# EAGLE library part LAN_CONTROLLER (library GoatFinder)
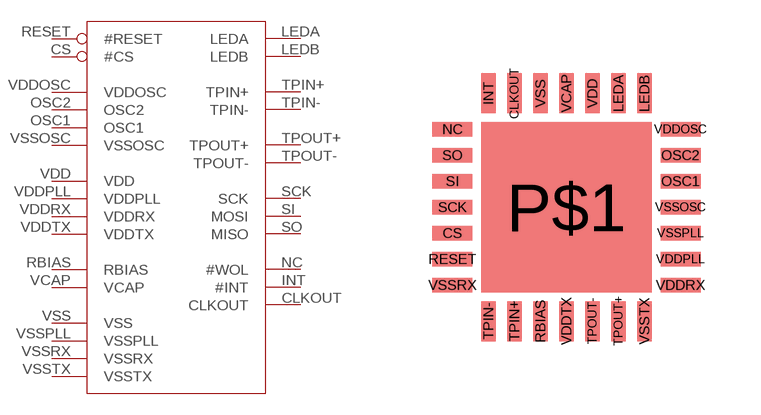
[diagram p5: symbol with the pads of LAN_CONTROLLER; footprint LAN_CONTROLLER]

Designator prefix -

## LAN_CONTROLLER  [LAN_CONTROLLER]
CLKOUT  CLKOUT
CS  #CS
INT  #INT
LEDA  LEDA
LEDB  LEDB
NC  #WOL
OSC1  OSC1
OSC2  OSC2
RBIAS  RBIAS
RESET  #RESET
SCK  SCK
SI  MOSI
SO  MISO
TPIN+  TPIN+
TPIN-  TPIN-
TPOUT+  TPOUT+
TPOUT-  TPOUT-
VCAP  VCAP
VDD  VDD
VDDOSC  VDDOSC
VDDPLL  VDDPLL
VDDRX  VDDRX
VDDTX  VDDTX
VSS  VSS
VSSOSC  VSSOSC
VSSPLL  VSSPLL
VSSRX  VSSRX
VSSTX  VSSTX

## Footprint LAN_CONTROLLER (pad centres in mm)
smd 0.37 x 1: CLKOUT -1.3,2.85; INT -1.95,2.85; LEDA 1.3,2.85; LEDB 1.95,2.85; RBIAS -0.65,-2.85; TPIN+ -1.3,-2.85; TPIN- -1.95,-2.85; TPOUT+ 1.3,-2.85; TPOUT- 0.65,-2.85; VCAP 0,2.85; VDD 0.65,2.85; VDDTX 0,-2.85; VSS -0.65,2.85; VSSTX 1.95,-2.85
smd 1 x 0.37: CS -2.85,-0.65; NC -2.85,1.95; OSC1 2.85,0.65; OSC2 2.85,1.3; RESET -2.85,-1.3; SCK -2.85,0; SI -2.85,0.65; SO -2.85,1.3; VDDOSC 2.85,1.95; VDDPLL 2.85,-1.3; VDDRX 2.85,-1.95; VSSOSC 2.85,0; VSSPLL 2.85,-0.65; VSSRX -2.85,-1.95
smd 4.25 x 4.25: P$1 0,0